# Altium schematic symbol library polyfuse.SchLib: 1 symbol
Pins are listed as number, name and electrical type; pins without a type are passive.

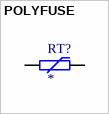
[diagram p0: symbol POLYFUSE]

## POLYFUSE
designator RT?
pins: 1 (power), 2 (power)